# Altium footprint library LibraryJ30.PcbLib: 10 footprints
Each footprint in its own frame and in the unit in brackets; x right, y up, seen from the top. Pads: shape width x height; smd on the part's side, far side on the other; paste and mask are expansions set on the pad; w line width, h text height; cw(c..) or ccw(c..) is an arc to the next point about the centre after c.
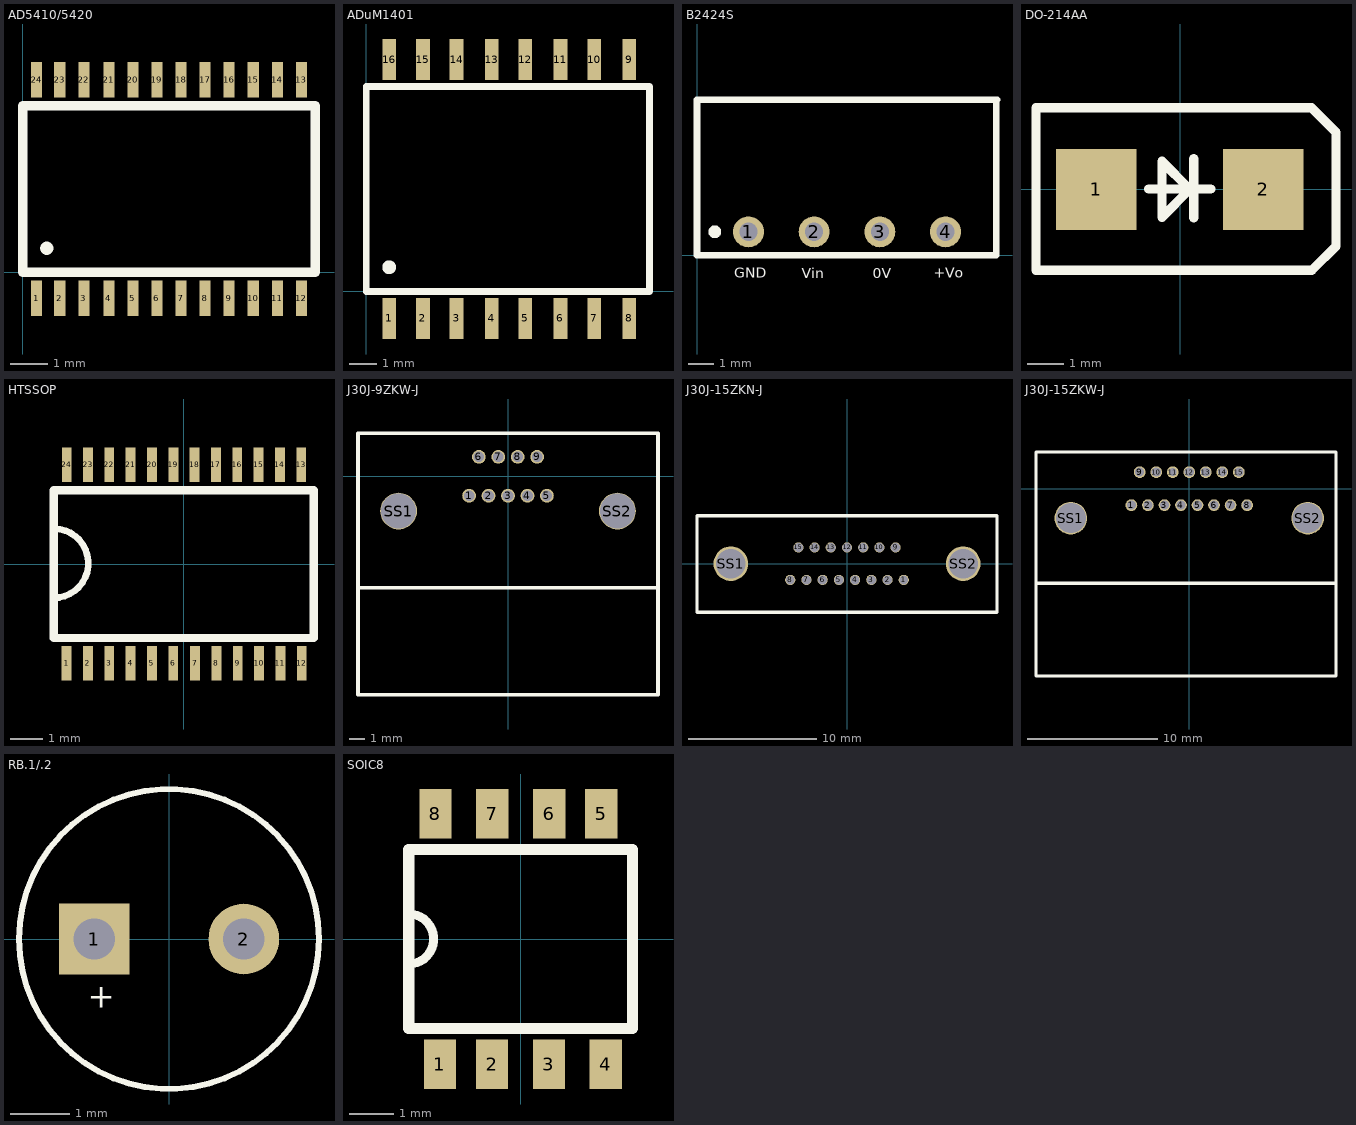
[diagram p0: the footprints below, top view; thin cyan lines are the x and y axes]

## AD5410/5420 [mm] "TSSOP-24 7.9*4.5*1.2 mm"
height 1.2
pads (24):
  rect 0.3x0.95 smd: 1(0.375,-0.7) 2(1,-0.7) 3(1.65,-0.7) 4(2.325,-0.7) 5(2.975,-0.7) 6(3.625,-0.7) 7(4.275,-0.7) 8(4.925,-0.7) 9(5.575,-0.7) 10(6.225,-0.7) 11(6.875,-0.7) 12(7.525,-0.7) 13(7.525,5.2) 14(6.875,5.2) 15(6.225,5.2) 16(5.575,5.2) 17(4.925,5.2) 18(4.275,5.2) 19(3.625,5.2) 20(2.975,5.2) 21(2.325,5.2) 22(1.65,5.2) 23(1,5.2) 24(0.375,5.2)
Top Overlay:
  circle w0.254: c0.65,0.65 r0.05
  lines w0.254: 0,0 7.9,0 7.9,4.5 0,4.5 0,0

## ADuM1401 [mm] "SOIC16 10.5*10.6*2.6"
pads (16):
  rect 0.51x1.524 smd: 1(0.85,-1) 2(2.1,-1) 3(3.35,-1) 4(4.65,-1) 5(5.9,-1) 6(7.2,-1) 7(8.45,-1) 8(9.75,-1) 9(9.75,8.6) 10(8.45,8.6) 11(7.2,8.6) 12(5.9,8.6) 13(4.65,8.6) 14(3.35,8.6) 15(2.1,8.6) 16(0.85,8.6)
Top Overlay:
  circle w0.254: c0.85,0.9 r0.13
  lines w0.254: 0,0 0,7.6 10.5,7.6 10.5,0 0,0

## B2424S [mm] "电源 SIP11.60*6.00*10.16 mm"
pads (4):
  round 1.2 hole 0.7: 1(1.99,0.9) 2(4.53,0.9) 3(7.07,0.9) 4(9.61,0.9)
Top Overlay:
  circle w0.254: c0.69,0.9 r0.12
  lines w0.254: 0,0 0,6 11.6,6 11.575,5.975 11.575,0 0,0
  text "GND" at 1.44,-0.88 h0.4
  text "Vin" at 4.05,-0.89 h0.4
  text "0V" at 6.79,-0.89 h0.4
  text "+Vo" at 9.15,-0.88 h0.4

## DO-214AA [mm] "二极管SMB"
pads (2):
  rect 2.2x2.2 smd: 1(-2.29,0) 2(2.27,0)
Top Overlay:
  lines w0.254: -0.855,0.01 0.835,0.01 ; 0.375,-0.775 0.375,0.835 ; -3.93,-2.205 -2.895,-2.205 3.59,-2.205 4.25,-1.545 4.25,1.56 3.58,2.23 -3.93,2.23 -3.93,-2.205 ; -0.495,-0.76 -0.495,-0.755 0.25,-0.01 0.25,0.02 -0.495,0.765 -0.495,-0.76

## HTSSOP [mm] "7.90 * 6.60*1.20mm 24脚紧凑型封装"
height 1.2
pads (24):
  rect 0.3x1.05 smd: 1(-3.575,-3.025) 2(-2.925,-3.025) 3(-2.275,-3.025) 4(-1.625,-3.025) 5(-0.975,-3.025) 6(-0.325,-3.025) 7(0.34,-3.025) 8(0.99,-3.025) 9(1.64,-3.015) 10(2.29,-3.015) 11(2.94,-3.025) 12(3.59,-3.025) 13(3.575,3.025) 14(2.925,3.02) 15(2.275,3.025) 16(1.625,3.025) 17(0.975,3.025) 18(0.325,3.025) 19(-0.32,3.025) 20(-0.97,3.025) 21(-1.625,3.025) 22(-2.275,3.025) 23(-2.92,3.03) 24(-3.57,3.03)
Top Overlay:
  lines w0.2: -3.977,-1.031 ccw(c-3.97,0.025) -3.956,1.081
  lines w0.254: -3.97,-2.25 3.95,-2.25 3.95,2.25 -3.97,2.25 -3.97,-2.25

## J30J-9ZKW-J [mm] "双排弯插J30J-9"
pads (11):
  round 0.9 hole 0.7: 1(-2.54,-1.27) 2(-1.27,-1.27) 3(0,-1.27) 4(1.27,-1.27) 5(2.54,-1.27) 6(-1.905,1.27) 7(-0.635,1.27) 8(0.635,1.27) 9(1.905,1.27)
  round 2.4 hole 2.3: SS1(-7.15,-2.27) SS2(7.15,-2.27)
Top Overlay:
  lines w0.254: -9.8,-7.27 9.8,-7.31 ; -9.8,-7.27 -9.8,2.81 9.8,2.81 9.8,-7.31 ; -9.8,-7.27 -9.8,-14.265 -9.795,-14.27 -7.15,-14.27 7.855,-14.27 9.78,-14.27 9.8,-14.25 9.8,-7.31

## J30J-15ZKN-J [mm] "双排直插J30J-15"
pads (17):
  round 0.8 hole 0.7: 1(4.445,-1.27) 2(3.175,-1.27) 3(1.905,-1.27) 4(0.635,-1.27) 5(-0.635,-1.27) 6(-1.905,-1.27) 7(-3.175,-1.27) 8(-4.445,-1.27) 9(3.81,1.27) 10(2.54,1.27) 11(1.27,1.27) 12(0,1.27) 13(-1.27,1.27) 14(-2.54,1.27) 15(-3.81,1.27)
  round 2.7 hole 2.3: SS1(-9.1,0) SS2(9.1,0)
Top Overlay:
  lines w0.254: -11.75,-3.8 11.75,-3.8 11.75,3.75 -11.75,3.75 -11.75,-3.8

## J30J-15ZKW-J [mm] "双排弯头15针J30"
pads (17):
  round 0.9 hole 0.7: 1(-4.445,-1.27) 2(-3.175,-1.27) 3(-1.905,-1.27) 4(-0.635,-1.27) 5(0.635,-1.27) 6(1.905,-1.27) 7(3.175,-1.27) 8(4.445,-1.27) 9(-3.81,1.27) 10(-2.54,1.27) 12(0,1.27) 13(1.27,1.27) 14(2.54,1.27) 15(3.81,1.27)
  round 0.9 hole 0.6: 11(-1.27,1.27)
  round 2.5 hole 2.3: SS1(-9.1,-2.27) SS2(9.1,-2.27)
Top Overlay:
  lines w0.254: -11.775,2.81 -11.775,-14.39 11.27,-14.39 11.27,2.81 ; -11.77,-7.265 11.275,-7.265 ; -11.76,2.81 11.265,2.81

## RB.1/.2 [mm] "<100uF的电解电容"
pads (2):
  rect 1.2x1.2 hole 0.7: 1(-1.27,0)
  round 1.2 hole 0.7: 2(1.27,0)
Top Overlay:
  circle w0.1: c0,0 r2.546
  text "+" at -1.38,-1.17 h0.4

## SOIC8 [mm] "6.20mm*5.00mm*1.75mm"
pads (8):
  rect 0.72x1.1 smd: 1(-1.8,-2.8) 2(-0.635,-2.8) 3(0.635,-2.8) 4(1.905,-2.8) 5(1.805,2.8) 6(0.64,2.8) 7(-0.63,2.8) 8(-1.9,2.8)
Top Overlay:
  lines w0.2: -2.5,-0.56 ccw(c-2.5,0) -2.5,0.56
  lines w0.254: -2.5,-2 -2.5,2 2.5,2 2.5,-2 -2.5,-2